# Altium footprint library Bat42WS.PcbLib: 4 footprints
Each footprint in its own frame and in the unit in brackets; x right, y up, seen from the top. Pads: shape width x height; smd on the part's side, far side on the other; paste and mask are expansions set on the pad; w line width, h text height; cw(c..) or ccw(c..) is an arc to the next point about the centre after c.
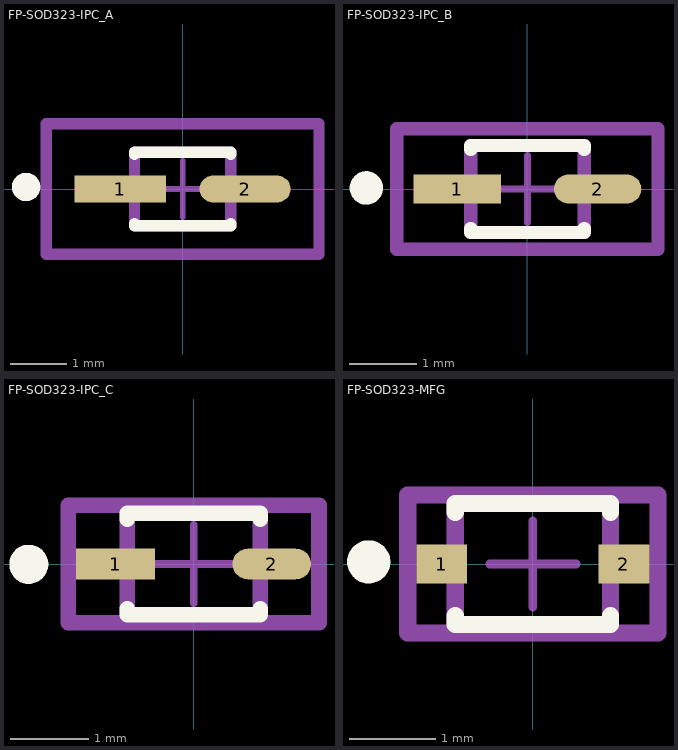
[diagram p0: the footprints below, top view; thin cyan lines are the x and y axes]

## FP-SOD323-IPC_A [mm]
pads (2):
  rect 1.606x0.472 smd paste+0 mask+0: 1(-1.1,0)
  rrect100% 1.606x0.472 smd paste+0 mask+0: 2(1.1,0)
Top Overlay:
  circle w0.25: c-2.76,0.036 r0.125
  lines w0.2: -0.85,-0.611 -0.85,-0.65 0.85,-0.65 0.85,-0.611 ; -0.85,0.611 -0.85,0.65 0.85,0.65 0.85,0.611
Mechanical 5:
  lines w0.2: -2.403,-1.15 2.403,-1.15 2.403,1.15 -2.403,1.15 -2.403,-1.15
  text ".Designator" at 0,0.188 h1
Mechanical 13:
  lines w0.2: -0.85,-0.65 0.85,-0.65 0.85,0.65 -0.85,0.65 -0.85,-0.65
Mechanical 15:
  lines w0.2: -2.403,-1.15 2.403,-1.15 2.403,1.15 -2.403,1.15 -2.403,-1.15
Mechanical 16:
  lines w0.1: -0.5,0 0.5,0 ; 0,-0.5 0,0.5
3D body "Diode_Diodes_Inc_BAT42WS-7-F_eec.STEP": height 0.25, standoff 0, extent -2.403,-1.15 2.403,1.15

## FP-SOD323-IPC_B [mm]
pads (2):
  rect 1.306x0.432 smd paste+0 mask+0: 1(-1.05,0)
  rrect100% 1.306x0.432 smd paste+0 mask+0: 2(1.05,0)
Top Overlay:
  circle w0.25: c-2.41,0.016 r0.125
  lines w0.2: -0.85,-0.591 -0.85,-0.65 0.85,-0.65 0.85,-0.591 ; -0.85,0.591 -0.85,0.65 0.85,0.65 0.85,0.591
Mechanical 5:
  lines w0.2: -1.953,-0.9 1.953,-0.9 1.953,0.9 -1.953,0.9 -1.953,-0.9
  text ".Designator" at 0,0.188 h1
Mechanical 13:
  lines w0.2: -0.85,-0.65 0.85,-0.65 0.85,0.65 -0.85,0.65 -0.85,-0.65
Mechanical 15:
  lines w0.2: -1.953,-0.9 1.953,-0.9 1.953,0.9 -1.953,0.9 -1.953,-0.9
Mechanical 16:
  lines w0.1: -0.5,0 0.5,0 ; 0,-0.5 0,0.5
3D body "Diode_Diodes_Inc_BAT42WS-7-F_eec.STEP": height 0.25, standoff 0, extent -1.953,-0.9 1.953,0.9

## FP-SOD323-IPC_C [mm]
pads (2):
  rect 1.006x0.392 smd paste+0 mask+0: 1(-1,0)
  rrect100% 1.006x0.392 smd paste+0 mask+0: 2(1,0)
Top Overlay:
  circle w0.25: c-2.11,-0.004 r0.125
  lines w0.2: -0.85,-0.571 -0.85,-0.65 0.85,-0.65 0.85,-0.571 ; -0.85,0.571 -0.85,0.65 0.85,0.65 0.85,0.571
Mechanical 5:
  lines w0.2: -1.603,-0.75 1.603,-0.75 1.603,0.75 -1.603,0.75 -1.603,-0.75
  text ".Designator" at 0,0.188 h1
Mechanical 13:
  lines w0.2: -0.85,-0.65 0.85,-0.65 0.85,0.65 -0.85,0.65 -0.85,-0.65
Mechanical 15:
  lines w0.2: -1.603,-0.75 1.603,-0.75 1.603,0.75 -1.603,0.75 -1.603,-0.75
Mechanical 16:
  lines w0.1: -0.5,0 0.5,0 ; 0,-0.5 0,0.5
3D body "Diode_Diodes_Inc_BAT42WS-7-F_eec.STEP": height 0.25, standoff 0, extent -1.603,-0.75 1.603,0.75

## FP-SOD323-MFG [mm]
pads (2):
  rect 0.59x0.45 smd paste+0 mask+0: 1(-1.055,0) 2(1.055,0)
Top Overlay:
  circle w0.25: c-1.9,0.025 r0.125
  lines w0.2: -0.9,-0.6 -0.9,-0.7 0.9,-0.7 0.9,-0.6 ; -0.9,0.6 -0.9,0.7 0.9,0.7 0.9,0.6
Mechanical 5:
  lines w0.2: -1.45,-0.8 1.45,-0.8 1.45,0.8 -1.45,0.8 -1.45,-0.8
  text ".Designator" at 0,0.188 h1
Mechanical 13:
  lines w0.2: -0.9,-0.7 0.9,-0.7 0.9,0.7 -0.9,0.7 -0.9,-0.7
Mechanical 15:
  lines w0.2: -1.45,-0.8 1.45,-0.8 1.45,0.8 -1.45,0.8 -1.45,-0.8
Mechanical 16:
  lines w0.1: -0.5,0 0.5,0 ; 0,-0.5 0,0.5
3D body "Diode_Diodes_Inc_BAT42WS-7-F_eec.STEP": height 0.25, standoff 0, extent -1.45,-0.8 1.45,0.8